# Altium schematic symbol library VGA-Module-SCH-LIB.SchLib: 36 symbols (part 1 of 2)
Pins are listed as number, name and electrical type; pins without a type are passive.

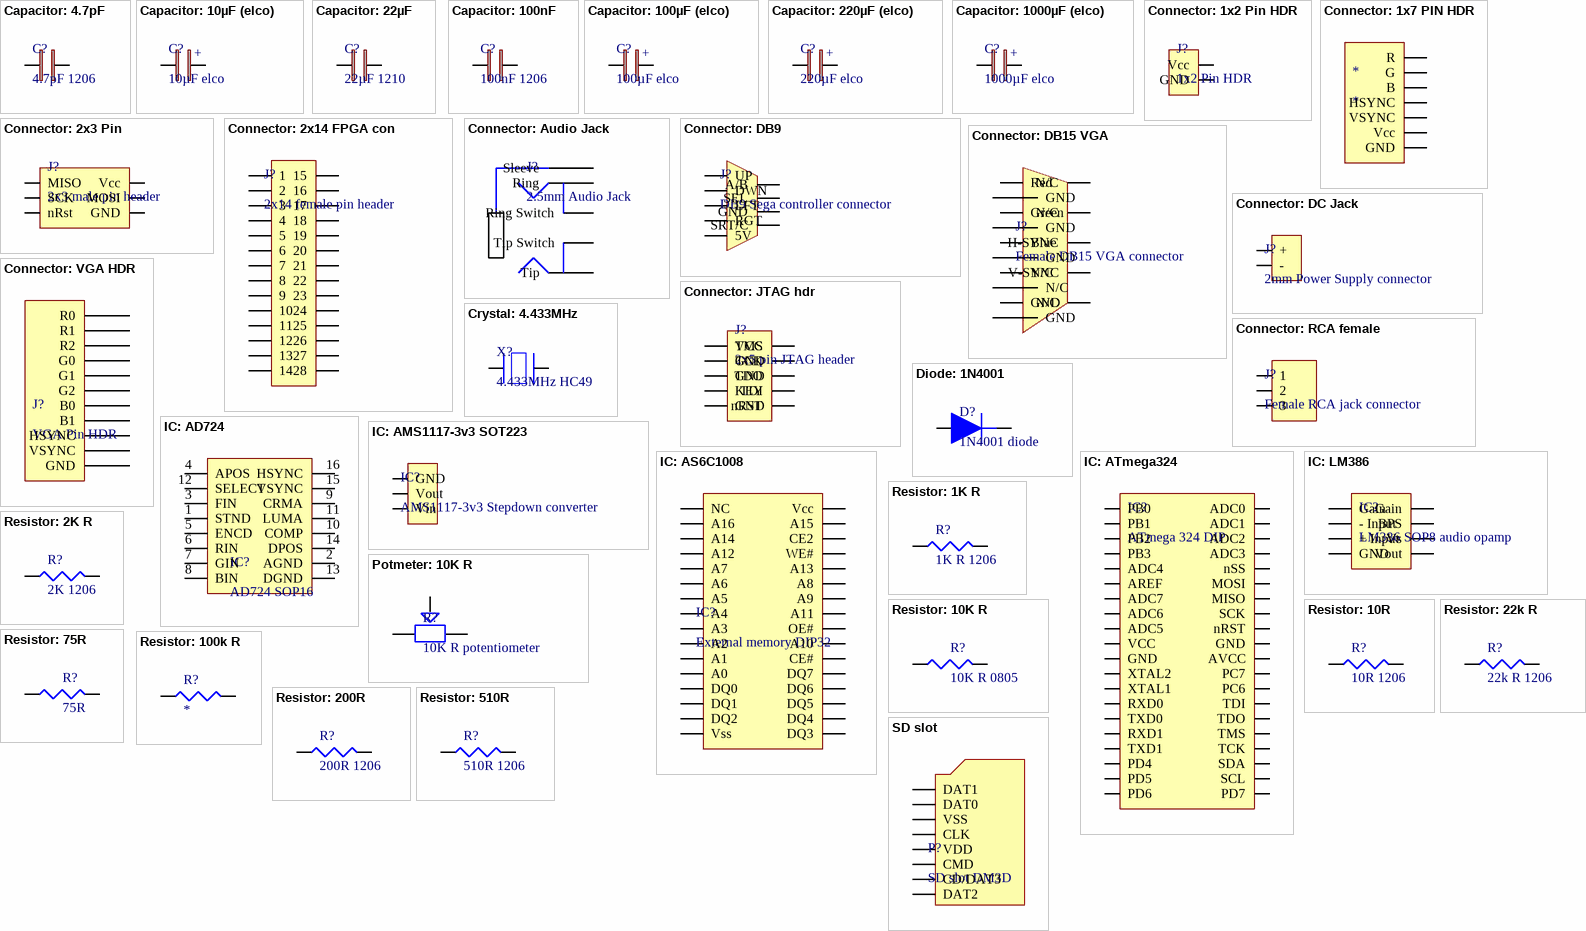
[diagram p0: symbols Capacitor: 4.7pF to SD slot]

## Capacitor: 4.7pF
designator C?, comment 4.7pF 1206
1206 4.7 pF 50 V ±0.25 pF Tolerance C0G/NP0 SMT Multilayer Ceramic Capacitor; Manufacturer: Kyocera AVX; Manufacturer Part Number: 12065A4R7CAT2A; Voltage Rating: 50V; Dielectric: C0G; Dissipation Factor: 2.5%; Supplier 1: Rs; RoHS: Yes; Category: Ceramic Capacitors; Stock 1: 1800; Pricing 1: 100=0,19200, 500=0,13300, 1000=0,11900 (EUR); Mount: Surface Mount; Case/Package: 1206; Case Code (Imperial): 1206; Case Code (Metric): 3216; Min Operating Temperature: -55°C; Max Operating Temperature: 125°C; Capacitance: 4.7pF; Package Quantity: 1; Voltage Rating (DC): 50V; Packaging: Tape and Reel; Series: -; Termination: SMD/SMT; Construction: Flat; Length: 3.2mm; Width: 1.6mm; Height: 0.5mm; Thickness: 0.037inch; Depth: 1.6mm; Radiation Hardening: No; RoHS Compliant: Yes; Lead Free: Lead Free; ComponentLink1URL: https://datasheet.ciiva.com/152/ccog-152054.pdf?src-supplier=Digi-Key; ComponentLink1Description: https://datasheet.ciiva.com/152/ccog-152054.pdf?src-supplier=Digi-Key; ComponentLink2URL: https://datasheet.ciiva.com/152/ccog-152055.pdf?src-supplier=Digi-Key; ComponentLink2Description: https://datasheet.ciiva.com/152/ccog-152055.pdf?src-supplier=Digi-Key; ComponentLink3URL: https://datasheet.ciiva.com/11551/ccog-11551671.pdf?src-supplier=Avnet; ComponentLink3Description: https://datasheet.ciiva.com/11551/ccog-11551671.pdf?src-supplier=Avnet; ComponentLink4URL: https://datasheet.ciiva.com/152/ccog-152056.pdf?src-supplier=Digi-Key; ComponentLink4Description: https://datasheet.ciiva.com/152/ccog-152056.pdf?src-supplier=Digi-Key; ComponentLink5URL: https://datasheet.ciiva.com/16390/ccog-16390684.pdf?src-supplier=Future+Electronics; ComponentLink5Description: https://datasheet.ciiva.com/16390/ccog-16390684.pdf?src-supplier=Future+Electronics; Supplier Part Number 1: 1356810
footprint CAPACITOR 1206 (100nF & 4.7pF)
pins: 1, 2

## Capacitor: 10µF (elco)
designator C?, comment 10µF elco
ALUMINUM ELECTROLYTIC CAPACITOR, 10UF, 35V, 20%, SMD; Product Range:TZV Series; Capacitance:10 F; Voltage Rating:35V; AE Capacitor Case:Radial Can - SMD; Diameter:4mm; ESR:-; Height:6.1mm; Ripple Current AC:90mA; Packaging:Cut Tape ;RoHS Compliant: Yes; Manufacturer: Rubycon; Manufacturer Part Number: 35TZV10M4X6.1; Ripple Current (AC): 90mA; Impedance: 1.45R; Ripple Current: 41mA; Life (Hours): 2000Hour; Supplier 1: Farnell; RoHS: Yes; Category: Aluminum Electrolytic Capacitors; Stock 1: 670; Pricing 1: 5=0,35500, 50=0,23400, 250=0,17300, 500=0,16000, 1000=0,14700, 2000=0,12400, 10000=0,12200, 20000=0,11900 (EUR); Mount: Surface Mount; Case/Package: Radial; Number of Pins: 2; Min Operating Temperature: -55°C; Max Operating Temperature: 105°C; Packaging: Cut Tape; Package Quantity: 1; Capacitance: 10uF; Voltage Rating: 35V; Tolerance: 20%; Voltage Rating (DC): 35V; Series: TZV; Construction: Cylindrical; Diameter: 4mm; Height: 6.1mm; Height - Seated (Max): 0.24inch; Radiation Hardening: No; Reach SVHC Compliant: Yes; Lead Free: Lead Free; RoHS Compliant: Yes; ComponentLink1URL: https://datasheet.ciiva.com/26878/getdatasheetpartid-443596-26878330.pdf?src-supplier=Verical; ComponentLink1Description: https://datasheet.ciiva.com/26878/getdatasheetpartid-443596-26878330.pdf?src-supplier=Verical; ComponentLink2URL: https://datasheet.ciiva.com/22732/1725814-22732219.pdf?src-supplier=Element14; ComponentLink2Description: https://datasheet.ciiva.com/22732/1725814-22732219.pdf?src-supplier=Element14; Supplier Part Number 1: 2346378
footprint ELCO (ELCO CAP)
pins: 1 +, 2 -

## Capacitor: 22µF
designator C?, comment 22µF 1210
1210 22 uF 25 V ±10% Tolerance X5R SMT Multilayer Ceramic Capacitor; Manufacturer: Murata; Manufacturer Part Number: GRM32ER61E226KE15L; Capacitance: 22uF; Voltage Rating: 25V; Supplier 1: Avnet; RoHS: Yes; Category: Ceramic Capacitors; Stock 1: 200000; Pricing 1: 1000=0,80623, 2000=0,76265, 4000=0,71907, 6000=0,67549, 8000=0,63191, 10000=0,58833, 100000=0,54475 (USD); Mount: Surface Mount; Case/Package: 1210; Number of Pins: 2; Case Code (Metric): 3225; Case Code (Imperial): 1210; Material: Ceramic; Min Operating Temperature: -55°C; Max Operating Temperature: 85°C; Package Quantity: 1; Tolerance: 10%; Packaging: Tape and Reel; Voltage Rating (DC): 25V; Dielectric: X5R; Termination: SMD/SMT; Series: GRM; Construction: Flat; Voltage: 25V; Length: 3.2mm; Width: 2.5mm; Height: 2.5mm; Depth: 2.5mm; Thickness: 0.106inch; Radiation Hardening: No; Reach SVHC Compliant: Yes; RoHS Compliant: Yes; Lead Free: Lead Free; Supplier Part Number 1: GRM32ER61E226KE15L
footprint CAPACITOR 1210 (1210 SMD capacitor - 22µF)
pins: 1, 2

## Capacitor: 100nF
designator C?, comment 100nF 1206
Ceramic capacitor SMD-1206 100nF /50V X7R# K +-10%, AVX, RoHS, /4000 reel/; Manufacturer: Kyocera AVX; Manufacturer Part Number: 12065C104KAT2A; Tolerance: 10%; Voltage Rating: 50V; Dielectric: X7R; Insulation Resistance: 100GR; Dissipation Factor: 2.5%; Supplier 1: Farnell; RoHS: Yes; Category: Ceramic Capacitors; Stock 1: 188000; Pricing 1: 4000=0,02600, 20000=0,02520, 40000=0,02440 (EUR); Mount: Surface Mount,PCB; Case/Package: 1206; Number of Pins: 2; Case Code (Metric): 3216; Case Code (Imperial): 1206; Dielectric Material: Ceramic; Contact Plating: Tin,Matte; Min Operating Temperature: -55°C; Max Operating Temperature: 125°C; Packaging: Tape and Reel; Capacitance: 100nF; Voltage Rating (DC): 50V; Voltage: 50V; Series: -; Package Quantity: 1; Termination: SMD/SMT; Construction: Flat; Length: 3.2mm; Width: 1.6mm; Height: 0.94mm; Depth: 1.6mm; Thickness: 0.037inch; Radiation Hardening: No; Lead Free: Lead Free; RoHS Compliant: Yes; Reach SVHC Compliant: Yes; ComponentLink1URL: https://datasheet.ciiva.com/11786/0900766b80ed4be2-11786988.pdf?src-supplier=Rs; ComponentLink1Description: https://datasheet.ciiva.com/11786/0900766b80ed4be2-11786988.pdf?src-supplier=Rs; ComponentLink2URL: https://datasheet.ciiva.com/2988/cx7r-2988135.pdf?src-supplier=Avnet; ComponentLink2Description: https://datasheet.ciiva.com/2988/cx7r-2988135.pdf?src-supplier=Avnet; ComponentLink3URL: https://datasheet.ciiva.com/16375/cx7r-16375719.pdf?src-supplier=Future+Electronics; ComponentLink3Description: https://datasheet.ciiva.com/16375/cx7r-16375719.pdf?src-supplier=Future+Electronics; ComponentLink4URL: https://datasheet.ciiva.com/2988/cx7r-2988136.pdf?src-supplier=Avnet; ComponentLink4Description: https://datasheet.ciiva.com/2988/cx7r-2988136.pdf?src-supplier=Avnet; ComponentLink5URL: https://datasheet.ciiva.com/7833/cx7r-7833405.pdf?src-supplier=Element14; ComponentLink5Description: https://datasheet.ciiva.com/7833/cx7r-7833405.pdf?src-supplier=Element14; ComponentLink6URL: https://datasheet.ciiva.com/25796/cx7r-25796358.pdf?src-supplier=Farnell; ComponentLink6Description: https://datasheet.ciiva.com/25796/cx7r-25796358.pdf?src-supplier=Farnell; ComponentLink7URL: https://datasheet.ciiva.com/7833/cx7r-7833402.pdf?src-supplier=Element14; ComponentLink7Description: https://datasheet.ciiva.com/7833/cx7r-7833402.pdf?src-supplier=Element14; ComponentLink8URL: https://datasheet.ciiva.com/150/cx7r-150390.pdf?src-supplier=Digi-Key; ComponentLink8Description: https://datasheet.ciiva.com/150/cx7r-150390.pdf?src-supplier=Digi-Key; ComponentLink9URL: https://datasheet.ciiva.com/150/cx7r-150389.pdf?src-supplier=Digi-Key; ComponentLink9Description: https://datasheet.ciiva.com/150/cx7r-150389.pdf?src-supplier=Digi-Key; ComponentLink10URL: https://datasheet.ciiva.com/150/cx7r-150391.pdf?src-supplier=Digi-Key; ComponentLink10Description: https://datasheet.ciiva.com/150/cx7r-150391.pdf?src-supplier=Digi-Key; ComponentLink11URL: https://datasheet.ciiva.com/7833/cx7r-7833403.pdf?src-supplier=Element14; ComponentLink11Description: https://datasheet.ciiva.com/7833/cx7r-7833403.pdf?src-supplier=Element14; ComponentLink12URL: https://datasheet.ciiva.com/7833/cx7r-7833404.pdf?src-supplier=Element14; ComponentLink12Description: https://datasheet.ciiva.com/7833/cx7r-7833404.pdf?src-supplier=Element14; ComponentLink13URL: https://datasheet.ciiva.com/5415/cx7r-218113-5415909.pdf?src-supplier=Mouser; ComponentLink13Description: https://datasheet.ciiva.com/5415/cx7r-218113-5415909.pdf?src-supplier=Mouser; ComponentLink14URL: https://datasheet.ciiva.com/14584/70001075-14584956.pdf?src-supplier=Allied+Electronics; ComponentLink14Description: https://datasheet.ciiva.com/14584/70001075-14584956.pdf?src-supplier=Allied+Electronics; Supplier Part Number 1: 2281081
footprint CAPACITOR 1206 (100nF & 4.7pF)
pins: 1, 2

## Capacitor: 100µF (elco)
designator C?, comment 100µF elco
CAP ALUM 100UF 20% 10V SMD; Manufacturer: Panasonic; Manufacturer Part Number: EEE-1AA101WR; Ripple Current: 50mA; Life (Hours): 1000Hour; Supplier 1: Rs; RoHS: Yes; Category: Aluminum Electrolytic Capacitors; Stock 1: 2900; Pricing 1: 50=0,23400, 250=0,13800, 500=0,11000 (EUR); Mount: Surface Mount,PCB; Case/Package: Radial; Contact Plating: Tin; Min Operating Temperature: -40°C; Max Operating Temperature: 85°C; Capacitance: 100uF; Voltage Rating: 10V; Tolerance: 20%; Packaging: Tape and Reel; Package Quantity: 1000; Voltage Rating (DC): 10V; Termination: SMD/SMT; Series: S; Construction: Cylindrical; Ripple Current (AC): 50mA; Diameter: 5mm; Length: 5.5mm; Height: 5.4mm; Height - Seated (Max): 0.213inch; Ratings: AEC-Q200; Radiation Hardening: No; RoHS Compliant: Yes; Lead Free: Lead Free; ComponentLink1URL: https://datasheet.ciiva.com/26945/getdatasheetpartid-169213-26945071.pdf?src-supplier=Verical; ComponentLink1Description: https://datasheet.ciiva.com/26945/getdatasheetpartid-169213-26945071.pdf?src-supplier=Verical; ComponentLink2URL: https://datasheet.ciiva.com/24027/aba0000ce2-40801-24027541.pdf?src-supplier=Mouser; ComponentLink2Description: https://datasheet.ciiva.com/24027/aba0000ce2-40801-24027541.pdf?src-supplier=Mouser; ComponentLink3URL: https://datasheet.ciiva.com/14598/70255710-14598233.pdf?src-supplier=Allied+Electronics; ComponentLink3Description: https://datasheet.ciiva.com/14598/70255710-14598233.pdf?src-supplier=Allied+Electronics; ComponentLink4URL: https://datasheet.ciiva.com/14605/70255710-14605689.pdf?src-supplier=Allied+Electronics; ComponentLink4Description: https://datasheet.ciiva.com/14605/70255710-14605689.pdf?src-supplier=Allied+Electronics; ComponentLink5URL: https://datasheet.ciiva.com/11673/aba0000ce2-11673882.pdf?src-supplier=Avnet; ComponentLink5Description: https://datasheet.ciiva.com/11673/aba0000ce2-11673882.pdf?src-supplier=Avnet; ComponentLink6URL: https://datasheet.ciiva.com/16427/aba0000ce2-16427544.pdf?src-supplier=Future+Electronics; ComponentLink6Description: https://datasheet.ciiva.com/16427/aba0000ce2-16427544.pdf?src-supplier=Future+Electronics; ComponentLink7URL: https://datasheet.ciiva.com/2983/aba0000ce2-2983906.pdf?src-supplier=Avnet; ComponentLink7Description: https://datasheet.ciiva.com/2983/aba0000ce2-2983906.pdf?src-supplier=Avnet; ComponentLink8URL: https://datasheet.ciiva.com/30075/11aba0000ce2-30075303.pdf?src-supplier=Onlinecomponents.com; ComponentLink8Description: https://datasheet.ciiva.com/30075/11aba0000ce2-30075303.pdf?src-supplier=Onlinecomponents.com; Supplier Part Number 1: 1766372
footprint ELCO (ELCO CAP)
pins: 1 +, 2 -

## Capacitor: 220µF (elco)
designator C?, comment 220µF elco
Cap Aluminum Lytic 220uF 50V 20% (8 X 10.2mm) SMD 0.18 Ohm 670mA 2000h 105C Automotive T/R; Manufacturer: Panasonic; Manufacturer Part Number: EEEFT1H221AP; Dielectric Material: Aluminium; ESR (Equivalent Series Resistance): 180mR; Leakage Current: 110uA; Life (Hours): 2000Hour; Lead Diameter: 0.9mm; Supplier 1: Avnet; RoHS: Yes; Category: Aluminum Electrolytic Capacitors; Stock 1: 359; Pricing 1: 1=1,43000, 10=1,11000, 25=1,01000, 50=0,90500, 100=0,80400 (USD); Mount: Surface Mount,PCB; Case/Package: Radial; Number of Pins: 2; Contact Plating: Tin; Min Operating Temperature: -55°C; Max Operating Temperature: 105°C; Capacitance: 220uF; Voltage Rating: 50V; Tolerance: 20%; Packaging: Tape and Reel; Package Quantity: 500; Voltage Rating (DC): 50V; Termination: SMD/SMT; Voltage: 50V; Series: FT; Construction: Cylindrical; Ripple Current: 670mA; Ripple Current (AC): 670mA; Diameter: 8mm; Length: 10.2mm; Height: 10.2mm; Height - Seated (Max): 0.413inch; Lead Pitch: 3.1mm; Ratings: AEC-Q200; Radiation Hardening: No; Reach SVHC Compliant: Yes; Lead Free: Lead Free; RoHS Compliant: Yes; ComponentLink1URL: https://datasheet.ciiva.com/48523/smd-ft-eng-tds-48523263.pdf?src-supplier=Distrelec; ComponentLink1Description: https://datasheet.ciiva.com/48523/smd-ft-eng-tds-48523263.pdf?src-supplier=Distrelec; ComponentLink2URL: https://datasheet.ciiva.com/43458/1790597-43458703.pdf?src-supplier=Farnell; ComponentLink2Description: https://datasheet.ciiva.com/43458/1790597-43458703.pdf?src-supplier=Farnell; ComponentLink3URL: https://datasheet.ciiva.com/6025/1790597-6025836.pdf?src-supplier=Farnell; ComponentLink3Description: https://datasheet.ciiva.com/6025/1790597-6025836.pdf?src-supplier=Farnell; ComponentLink4URL: https://datasheet.ciiva.com/46376/1790597-46376766.pdf?src-supplier=Element14; ComponentLink4Description: https://datasheet.ciiva.com/46376/1790597-46376766.pdf?src-supplier=Element14; ComponentLink5URL: https://datasheet.ciiva.com/28691/1244238-28691159.pdf?src-supplier=Element14; ComponentLink5Description: https://datasheet.ciiva.com/28691/1244238-28691159.pdf?src-supplier=Element14; ComponentLink6URL: https://datasheet.ciiva.com/28691/1244238-28691150.pdf?src-supplier=Element14; ComponentLink6Description: https://datasheet.ciiva.com/28691/1244238-28691150.pdf?src-supplier=Element14; ComponentLink7URL: https://datasheet.ciiva.com/46385/1790597-46385166.pdf?src-supplier=Element14; ComponentLink7Description: https://datasheet.ciiva.com/46385/1790597-46385166.pdf?src-supplier=Element14; ComponentLink8URL: https://datasheet.ciiva.com/24070/aba0000ce135-31031-24070059.pdf?src-supplier=Mouser; ComponentLink8Description: https://datasheet.ciiva.com/24070/aba0000ce135-31031-24070059.pdf?src-supplier=Mouser; ComponentLink9URL: https://datasheet.ciiva.com/14599/70243693-14599500.pdf?src-supplier=Allied+Electronics; ComponentLink9Description: https://datasheet.ciiva.com/14599/70243693-14599500.pdf?src-supplier=Allied+Electronics; ComponentLink10URL: https://datasheet.ciiva.com/14607/70243693-14607598.pdf?src-supplier=Allied+Electronics; ComponentLink10Description: https://datasheet.ciiva.com/14607/70243693-14607598.pdf?src-supplier=Allied+Electronics; ComponentLink11URL: https://datasheet.ciiva.com/14606/70243693-14606280.pdf?src-supplier=Allied+Electronics; ComponentLink11Description: https://datasheet.ciiva.com/14606/70243693-14606280.pdf?src-supplier=Allied+Electronics; Supplier Part Number 1: 31T8183
footprint ELCO (ELCO CAP)
pins: 1 +, 2 -

## Capacitor: 1000µF (elco)
designator C?, comment 1000µF elco
Capacitor; Aluminum Electrolytic; Ecap 1000uF 25V H13 Case FK SMT; Manufacturer: Panasonic; Manufacturer Part Number: EEE-FK1E102AQ; Tolerance: 20%; Capacitance: 1mF; Ripple Current: 1.1A; Life (Hours): 5000Hour; ESR (Equivalent Series Resistance): 60mR; Polarity: Polar; Supplier 1: Rs; RoHS: Yes; Category: Aluminum Electrolytic Capacitors; Stock 1: 5; Pricing 1: 50=1,92800, 100=1,80600, 250=1,68200, 500=1,52800 (EUR); Mount: Surface Mount,PCB; Case/Package: Radial; Min Operating Temperature: -55°C; Max Operating Temperature: 105°C; Packaging: Tape and Reel; Package Quantity: 200; Voltage Rating: 25V; Voltage Rating (DC): 25V; Termination: SMD/SMT; Series: FK; Voltage: 25V; Construction: Cylindrical; Impedance: 60mR; Ripple Current (AC): 1.1A; Diameter: 12.5mm; Length: 13.5mm; Height: 13.5mm; Height - Seated (Max): 0.55inch; Ratings: AEC-Q200; Radiation Hardening: No; Reach SVHC Compliant: Yes; RoHS Compliant: Yes; Lead Free: Lead Free; Supplier Part Number 1: 7083869P
footprint ELCO (ELCO CAP)
pins: 1 +, 2 -

## Connector: 1x2 Pin HDR
designator J?, comment 1x2 Pin HDR
1x2 Pin header
footprint 2 HDR (1x2 pin header)
pins: 1 Vcc, 2 GND

## Connector: 1x7 PIN HDR
designator *
7 pin header
footprint 7 HDR (1x7 pin header)
pins: 1 R, 2 G, 3 B, 4 HSYNC, 5 VSYNC, 6 Vcc, 7 GND

## Connector: 2x3 Pin
designator J?, comment 2x3 male pin header
2x3 Pin header
footprint 2X3 HDR (2x3 pin header)
pins: 1 MISO, 2 Vcc, 3 SCK, 4 MOSI, 5 nRst, 6 GND

## Connector: 2x14 FPGA con
designator J?, comment 2x14 female pin header
12 Position Total Dual Row 2.54 mm Pitch Straight Female Header; Manufacturer: Sullins; Manufacturer Part Number: PPPC062LFBN-RC; Number of Positions: 12; Pitch: 0.1inch; Supplier 1: Future Electronics; RoHS: Yes; Category: Headers and Wire Housings; Stock 1: 3790; Pricing 1: 1=0,57000, 75=0,55000, 250=0,53000, 750=0,51000, 2500=0,47000 (USD); Mount: Through Hole; Contact Plating: Gold; Color: Black; Contact Material: Bronze; Housing Material: Plastic; Number of Rows: 2; Packaging: Bulk; Termination: Solder; Connector Type: Header; Contact Type: Female Socket; Package Quantity: 1000; Length: 15.7mm; Width: 5mm; Height: 8.5mm; Row Spacing: 0.1inch; RoHS Compliant: Yes; Lead Free: Lead Free; ComponentLink1URL: https://media.digikey.com/pdf/Data%20Sheets/Sullins%20PDFs/Female_Headers.100_DS.pdf?src-supplier=Digi-Key; ComponentLink1Description: https://media.digikey.com/pdf/Data%20Sheets/Sullins%20PDFs/Female_Headers.100_DS.pdf?src-supplier=Digi-Key; ComponentLink2URL: http://www.sullinscorp.com/catalogs/101_Page80-81_HEADER_.100_2.54mm_FEMALE.pdf?src-supplier=Future+Electronics; ComponentLink2Description: http://www.sullinscorp.com/catalogs/101_Page80-81_HEADER_.100_2.54mm_FEMALE.pdf?src-supplier=Future+Electronics; Supplier Part Number 1: 5320643
footprint 2X14 HDR (2x14 pin header)
pins: 1, 2, 3, 4, 5, 6, 7, 8, 9, 10, 11, 12, 13, 14, 15, 16, 17, 18, 19, 20, 21, 22, 23, 24, 25, 26, 27, 28

## Connector: Audio Jack
designator J?, comment 2.5mm Audio Jack
Conn Audio RCP 6 POS Solder RA SMD 6 Terminal 1 Port T/R; Manufacturer: Kycon; Manufacturer Part Number: STX-25427-6N-TR; Gender: Female; Voltage Rating: 250V; Number of Contacts: 6; Supplier 1: Mouser; RoHS: Yes; Category: Connectors; Stock 1: 623; Pricing 1: 1=1,84000, 10=1,50000, 50=1,50000, 100=1,43000, 1000=1,19000, 10000=0,90300 (USD); Mount: Surface Mount; Color: Black; Contact Material: Copper Alloy; Contact Plating: Gold; Package Quantity: 1250; Packaging: Tape and Reel; Termination: SMD/SMT; Orientation: Horizontal; Series: STX-25427; Radiation Hardening: No; RoHS Compliant: Yes; ComponentLink1URL: https://datasheet.ciiva.com/5054/stx25427-181552-5054121.pdf?src-supplier=Mouser; ComponentLink1Description: https://datasheet.ciiva.com/5054/stx25427-181552-5054121.pdf?src-supplier=Mouser; Supplier Part Number 1: 806-STX-25427-6N-TR
footprint AUDIO JACK (3.5mm audio jack)
pins: 1 Sleeve, 2 Ring, 3 Ring Switch, 4 Tip Switch, 6 Tip

## Connector: DB9
designator J?, comment DB9 Sega controller connector
9 Way Right Angle Through Hole PCB D-sub Connector Socket; 2.77mm; 2.84mm Pitch; Manufacturer: Wurth Electronics; Manufacturer Part Number: 618009231321; Gender: Female; Current Rating: 3A; Number of Contacts: 9; Voltage Rating: 125V; Supplier 1: Farnell; RoHS: Yes; Category: D-Sub Connectors; Stock 1: 287; Pricing 1: 1=3,44000, 10=2,90000, 100=2,52000, 250=2,17000, 500=1,93000, 1000=1,89000 (EUR); Mount: Through Hole; Contact Material: Copper Alloy; Contact Plating: Gold; Housing Material: Steel; Min Operating Temperature: -40°C; Max Operating Temperature: 85°C; Series: 618; Number of Rows: 2; Termination: SMD/SMT; Orientation: Right Angle; Length: 30.8mm; Width: 12.5mm; Depth: 20.75mm; Pitch: 2.84mm; RoHS Compliant: Yes; Lead Free: Lead Free; ComponentLink1URL: https://datasheet.ciiva.com/25605/0900766b81191772-25605489.pdf?src-supplier=Rs; ComponentLink1Description: https://datasheet.ciiva.com/25605/0900766b81191772-25605489.pdf?src-supplier=Rs; ComponentLink2URL: https://datasheet.ciiva.com/12669/6180xx231321-12669192.pdf?src-supplier=Mouser; ComponentLink2Description: https://datasheet.ciiva.com/12669/6180xx231321-12669192.pdf?src-supplier=Mouser; Supplier Part Number 1: 1841197
footprint DB9 Connector (DB9 Sega joystick connector)
pins: 1 UP, 2 DWN, 3 LFT, 4 RGT, 5 5V, 6 A/B, 7 SEL, 8 GND, 9 SRT/C

## Connector: DB15 VGA
designator J?, comment Female DB15 VGA connector
footprint VGA CONNECTOR
pins: 1 Red, 2 Green, 3 Blue, 4 N/C, 5 GND, 6 GND, 7 GND, 8 GND, 9 N/C, 10 GND, 11 N/C, 12 N/C, 13 H-SYNC, 14 V-SYNC, 15 N/C

## Connector: DC Jack
designator J?, comment 2mm Power Supply connector
2.0 x 6.5 mm, 2.5 A, Horizontal, Through Hole, Dc Power Jack Connector; Manufacturer: CUI; Manufacturer Part Number: PJ-002A; Gender: Male; Shielding: Unshielded; Current Rating: 2.5A; Insulation Resistance: 50MR; Voltage Rating: 24V; Number of Conductors: 2; Supplier 1: Arrow Electronics; RoHS: Yes; Category: Uncategorized; Mount: Through Hole; Color: Black; Contact Material: Copper Alloy,Copper; Contact Plating: Tin,Nickel; Housing Material: Thermoplastic; Housing Color: Black; Min Operating Temperature: -25°C; Max Operating Temperature: 85°C; Package Quantity: 500; Termination: Through Hole; Connector Type: Jack; Contact Gender: Male; Packaging: Bulk; Series: -; Orientation: Horizontal; Diameter: 2.1mm; RoHS Compliant: Yes; Flammability Rating: UL94 V-0; Lead Free: Lead Free; ComponentLink1URL: http://www.mouser.com/ds/2/670/pj-002a-515880.pdf?src-supplier=Mouser; ComponentLink1Description: http://www.mouser.com/ds/2/670/pj-002a-515880.pdf?src-supplier=Mouser; ComponentLink2URL: http://www.cui.com/Product/Resource/FuturePDF/PJ-002A.pdf?src-supplier=Future+Electronics; ComponentLink2Description: http://www.cui.com/Product/Resource/FuturePDF/PJ-002A.pdf?src-supplier=Future+Electronics; ComponentLink3URL: https://www.cui.com/product/resource/digikeypdf/pj-002a.pdf?src-supplier=Digi-Key; ComponentLink3Description: https://www.cui.com/product/resource/digikeypdf/pj-002a.pdf?src-supplier=Digi-Key; Supplier Part Number 1: PJ-002A
footprint DC JACK (DC power jack connector)
pins: 1 +, 2 -

## Connector: JTAG hdr
designator J?, comment 2x5 pin JTAG header
Male Box Header WR-BHD, THT, Vertical, pitch 2.54 mm, 10 pins; Manufacturer: Wurth Electronics; Manufacturer Part Number: 61201021621; Number of Positions: 10; Voltage Rating: 250V; Current Rating: 3A; Insulation Resistance: 1GR; Pitch: 2.54mm; Row Spacing: 0.1inch; Supplier 1: Farnell; RoHS: Yes; Category: Headers and Wire Housings; Stock 1: 6832; Pricing 1: 10=0,44900, 100=0,37100, 250=0,35000, 500=0,32800, 1000=0,32000, 2500=0,31400 (EUR); Mount: Through Hole; Color: Black; Contact Plating: Gold; Contact Material: Copper Alloy,Copper; Contact Shape: Square; Contact Finish - Mating: GOLD; Insulation Material: PBT; Insulation Color: Black; Housing Material: PBT; Min Operating Temperature: -40°C; Max Operating Temperature: 125°C; Number of Rows: 2; Packaging: Tray; Termination: Solder; Connector Type: Header; Fastening Type: Pull; Number of Contacts: 10; Gender: Male; Series: WR-BHD; Contact Type: Male Pin; Package Quantity: 260; Contact Gender: Male; Orientation: Straight; Length: 9.1mm; Width: 20.36mm; Height: 8.85mm; Flammability Rating: UL94 V-0; RoHS Compliant: Yes; Lead Free: Lead Free; ComponentLink1URL: https://datasheet.ciiva.com/15395/6120xx21621-265834-15395106.pdf?src-supplier=Mouser; ComponentLink1Description: https://datasheet.ciiva.com/15395/6120xx21621-265834-15395106.pdf?src-supplier=Mouser; ComponentLink2URL: https://datasheet.ciiva.com/731/6120xx21621-731344.pdf?src-supplier=Digi-Key; ComponentLink2Description: https://datasheet.ciiva.com/731/6120xx21621-731344.pdf?src-supplier=Digi-Key; ComponentLink3URL: https://datasheet.ciiva.com/7648/76595-7648121.pdf?src-supplier=Element14; ComponentLink3Description: https://datasheet.ciiva.com/7648/76595-7648121.pdf?src-supplier=Element14; Supplier Part Number 1: 1642019
footprint JTAG connector
pins: 1 VCC, 2 TMS, 3 GND, 4 TCK, 5 GND, 6 TDO, 7 KEY, 8 TDI, 9 GND, 10 nRST

## Connector: RCA female
designator J?, comment Female RCA jack connector
Conn RCA RCP 4 POS Solder RA SMD 2 Terminal 1 Port T/R; Manufacturer: CUI; Manufacturer Part Number: RCJ-014-SMT-TR; Body Material: Steel; Body Color: Silver; Shielding: Unshielded; Supplier 1: Arrow Electronics; RoHS: No; Category: Uncategorized; Mount: Surface Mount; Case/Package: Metal; Contact Plating: Tin; Insulation Color: Yellow; Gender: Female; Series: RCJ; Packaging: Tape and Reel; Termination: Solder; RoHS Compliant: No; ComponentLink1URL: https://datasheet.ciiva.com/7368/rcj-01x-smt-7368731.pdf?src-supplier=Digi-Key; ComponentLink1Description: https://datasheet.ciiva.com/7368/rcj-01x-smt-7368731.pdf?src-supplier=Digi-Key; ComponentLink2URL: https://datasheet.ciiva.com/7368/rcj-01x-smt-7368734.pdf?src-supplier=Digi-Key; ComponentLink2Description: https://datasheet.ciiva.com/7368/rcj-01x-smt-7368734.pdf?src-supplier=Digi-Key; Supplier Part Number 1: RCJ-014-SMT-TR
footprint RCA JACK (RCA Jack)
pins: 1, 2, 3

## Connector: VGA HDR
designator J?, comment VGA Pin HDR
VGA pin male header
footprint VGA HDR (1x11 pin header)
pins: 1 R0, 2 R1, 3 R2, 4 G0, 5 G1, 6 G2, 7 B0, 8 B1, 9 HSYNC, 10 VSYNC, 11 GND

## Crystal: 4.433MHz
designator X?, comment 4.433MHz HC49
Crystal 10MHz 30pF 2-Pin HC-49/U Loose; Manufacturer: Multicomp; Manufacturer Part Number: HC49S-10-30-50-70-30-ATF; Frequency Tolerance: 30ppm; Frequency Stability: 50ppm; Supplier 1: Farnell; RoHS: Yes; Category: Crystals; Stock 1: 320; Pricing 1: 1=0,39200, 2=0,35100, 3=0,31800, 5=0,31100, 10=0,30300, 20=0,27800, 50=0,25900, 100=0,23300 (EUR); Mount: Through Hole; Number of Pins: 2; Min Operating Temperature: -20°C; Max Operating Temperature: 70°C; Frequency: 10MHz; Load Capacitance: 30pF; Reach SVHC Compliant: Yes; RoHS Compliant: Yes; ComponentLink1URL: http://www.farnell.com/datasheets/1661828.pdf?src-supplier=Farnell; ComponentLink1Description: http://www.farnell.com/datasheets/1661828.pdf?src-supplier=Farnell; ComponentLink2URL: http://www.farnell.com/datasheets/1661828.pdf?src-supplier=Element14; ComponentLink2Description: http://www.farnell.com/datasheets/1661828.pdf?src-supplier=Element14; Supplier Part Number 1: 1666999
footprint XTAL 4.4436 MHz
pins: 1, 2

## Diode: 1N4001
designator D?, comment 1N4001 diode
Rectifier Diode Switching 100V 1A 2000ns 2-Pin SMA T/R; Manufacturer: MCC; Manufacturer Part Number: GS1B-LTP; Forward Voltage: 1V; Max Reverse Current: 50uA; Peak Non-Repetitive Surge Current: 30A; Element Configuration: Single; Reverse Recovery Time: 2us; Supplier 1: Arrow Electronics; RoHS: Yes; Category: Rectifier Diodes; Stock 1: 4511; Pricing 1: 1=0,24370, 10=0,20390, 25=0,20230, 100=0,11440, 250=0,11330, 500=0,07600, 1000=0,05260, 3000=0,03660 (USD); Mount: Surface Mount; Case/Package: DO-214AC; Number of Pins: 2; Min Operating Temperature: -55°C; Max Operating Temperature: 150°C; Packaging: Tape and Reel; Package Quantity: 1; Average Rectified Current: 1A; Max Reverse Voltage (DC): 100V; Series: GS1B; Max Surge Current: 30A; Reverse Voltage: 100V; Lead Free: Lead Free; RoHS Compliant: Yes; ComponentLink1URL: https://datasheet.ciiva.com/911/gs1a-lgs1m-ldo-214ac-911885.pdf?src-supplier=Digi-Key; ComponentLink1Description: https://datasheet.ciiva.com/911/gs1a-lgs1m-ldo-214ac-911885.pdf?src-supplier=Digi-Key; ComponentLink2URL: https://datasheet.ciiva.com/911/gs1a-lgs1m-ldo-214ac-911886.pdf?src-supplier=Digi-Key; ComponentLink2Description: https://datasheet.ciiva.com/911/gs1a-lgs1m-ldo-214ac-911886.pdf?src-supplier=Digi-Key; ComponentLink3URL: https://datasheet.ciiva.com/911/gs1a-lgs1m-ldo-214ac-911887.pdf?src-supplier=Digi-Key; ComponentLink3Description: https://datasheet.ciiva.com/911/gs1a-lgs1m-ldo-214ac-911887.pdf?src-supplier=Digi-Key; Supplier Part Number 1: GS1B-LTP
footprint DIODE (SMD DIODE)
pins: 1, 2

## IC: AD724
designator IC?, comment AD724 SOP16
RGB to NTSC and PAL Encoder 16-Pin SOIC W Tube; Manufacturer: Analog Devices; Manufacturer Part Number: AD724JRZ; Min Supply Voltage: 4.75V; Max Supply Voltage: 5.25V; Number of Channels: 3; Max Power Dissipation: 800mW; Operating Supply Voltage: 5V; Nominal Supply Current: 33mA; Bandwidth: 5MHz; Operating Supply Current: 42mA; Supplier 1: Farnell; RoHS: Yes; Category: Decoders and Multiplexers; Stock 1: 46; Pricing 1: 1=20,54000, 10=18,88000, 47=18,10000, 141=15,95000, 282=15,17000, 517=14,19000 (EUR); Mount: Surface Mount; Case/Package: SOIC; Number of Pins: 16; Contact Plating: Tin,Matte; Min Operating Temperature: 0°C; Max Operating Temperature: 70°C; Package Quantity: 47; Packaging: Rail/Tube; Series: -; Supply Current: 33mA; Length: 10.5mm; Width: 7.6mm; Height: 2.35mm; Lead Free: Contains Lead; RoHS Compliant: Yes; Reach SVHC Compliant: Yes; ComponentLink1URL: https://datasheet.ciiva.com/1778/ad724-1778742.pdf?src-supplier=Digi-Key; ComponentLink1Description: https://datasheet.ciiva.com/1778/ad724-1778742.pdf?src-supplier=Digi-Key; ComponentLink2URL: https://datasheet.ciiva.com/1140/83869-1140251.pdf?src-supplier=Element14; ComponentLink2Description: https://datasheet.ciiva.com/1140/83869-1140251.pdf?src-supplier=Element14; ComponentLink3URL: https://datasheet.ciiva.com/3245/ad724-3245391.pdf?src-supplier=Avnet; ComponentLink3Description: https://datasheet.ciiva.com/3245/ad724-3245391.pdf?src-supplier=Avnet; Supplier Part Number 1: 4023716
footprint AD724 (AD724 SOP16)
pins: 1 STND, 2 AGND, 3 FIN, 4 APOS, 5 ENCD, 6 RIN, 7 GIN, 8 BIN, 9 CRMA, 10 COMP, 11 LUMA, 12 SELECT, 13 DGND, 14 DPOS, 15 VSYNC, 16 HSYNC

## IC: AMS1117-3v3 SOT223
designator IC?, comment AMS1117-3v3 Stepdown converter
AMS1117-3v3 Stepdown converter 5v to 3v3 SOT223 package
footprint AMS1117 SO223 (AMS1117 SO223 package)
pins: 1 GND, 2 Vout, 3 Vin

## IC: AS6C1008
designator IC?, comment External memory DIP32
AS6C1008 Series 1-Mbit (128 K x 8) 3 V 55 ns CMOS Static RAM - PDIP-32; Manufacturer: Alliance Memory; Manufacturer Part Number: AS6C1008-55PCN; Access Time: 55ns; Max Supply Voltage: 5.5V; Min Supply Voltage: 2.7V; Interface: Parallel; Memory Size: 1Mb; Memory Type: RAM,SRAM - Asynchronous,SDR; Operating Supply Voltage: 3V; Address Bus Width: 17b; Number of Ports: 1; Number of Words: 128000; Max Supply Current: 60mA; Supplier 1: Rs; RoHS: Yes; Category: RAM; Stock 1: 774; Pricing 1: 1=4,11000, 5=3,49000, 10=3,39000, 25=3,28000, 50=3,20000 (EUR); Mount: Through Hole; Case/Package: PDIP; Number of Pins: 32; Weight: 0.078125oz; Min Operating Temperature: 0°C; Max Operating Temperature: 70°C; Packaging: Rail/Tube; Package Quantity: 13; Series: AS6C1008; Density: 1Mb; Access Time-Max: 55ns; Supply Voltage-Nom: 3V; Length: 41.91mm; Width: 13.818mm; Height: 3.81mm; Radiation Hardening: No; RoHS Compliant: Yes; Lead Free: Lead Free; Temperature Grade: COMMERCIAL; Reach SVHC Compliant: Yes; ComponentLink1URL: https://datasheet.ciiva.com/19457/1927457-19457052.pdf?src-supplier=Jameco; ComponentLink1Description: https://datasheet.ciiva.com/19457/1927457-19457052.pdf?src-supplier=Jameco; ComponentLink2URL: https://datasheet.ciiva.com/6877/32783-6877594.pdf?src-supplier=Newark; ComponentLink2Description: https://datasheet.ciiva.com/6877/32783-6877594.pdf?src-supplier=Newark; ComponentLink3URL: https://datasheet.ciiva.com/18617/as6c1008feb2007-18617960.pdf?src-supplier=Digi-Key; ComponentLink3Description: https://datasheet.ciiva.com/18617/as6c1008feb2007-18617960.pdf?src-supplier=Digi-Key; ComponentLink4URL: https://datasheet.ciiva.com/1510/32783-1510620.pdf?src-supplier=Element14; ComponentLink4Description: https://datasheet.ciiva.com/1510/32783-1510620.pdf?src-supplier=Element14; ComponentLink5URL: https://datasheet.ciiva.com/3201/as6c1008feb2007-3201030.pdf?src-supplier=Avnet; ComponentLink5Description: https://datasheet.ciiva.com/3201/as6c1008feb2007-3201030.pdf?src-supplier=Avnet; ComponentLink6URL: https://datasheet.ciiva.com/16208/as6c1008feb2007-16208749.pdf?src-supplier=Future+Electronics; ComponentLink6Description: https://datasheet.ciiva.com/16208/as6c1008feb2007-16208749.pdf?src-supplier=Future+Electronics; Supplier Part Number 1: 7444542
footprint DIP32 HDR
pins: 1 NC, 2 A16, 3 A14, 4 A12, 5 A7, 6 A6, 7 A5, 8 A4, 9 A3, 10 A2, 11 A1, 12 A0, 13 DQ0, 14 DQ1, 15 DQ2, 16 Vss, 17 DQ3, 18 DQ4, 19 DQ5, 20 DQ6, 21 DQ7, 22 CE#, 23 A10, 24 OE#, 25 A11, 26 A9, 27 A8, 28 A13, 29 WE#, 30 CE2, 31 A15, 32 Vcc

## IC: ATmega324
designator IC?, comment ATmega 324 DIP
8-bit AVR MCU, 32 KB, 2048 Bytes, 20 MHz, 1.8 to 5.5V, PDIP-40, RoHS; Manufacturer: Microchip; Manufacturer Part Number: ATMEGA324PA-PU; Min Supply Voltage: 1.8V; Interface: I2C,SPI,UART,USART,2-Wire; Frequency: 20MHz; RAM Size: 2KB; Number of I/Os: 32; Number of Timers/Counters: 3; Oscillator Type: Internal; Data Bus Width: 8b; Watchdog Timer: Yes; Memory Type: FLASH; Memory Size: 32KB; Peripherals: Brown-out Detect/Reset,POR,PWM,WDT; Number of PWM Channels: 6; Number of ADC Channels: 8; Number of SPI Channels: 1; Supplier 1: Farnell; RoHS: Yes; Category: Uncategorized; Stock 1: 132; Pricing 1: 1=5,70000, 25=5,22000, 100=5,13000 (EUR); Mount: Through Hole; Case/Package: PDIP; Number of Pins: 40; Contact Plating: Tin,Matte; Min Operating Temperature: -40°C; Max Operating Temperature: 85°C; Max Supply Voltage: 5.5V; Package Quantity: 10; Packaging: Rail/Tube; Number of Programmable I/O: 32; Max Frequency: 20MHz; Core Architecture: AVR; Series: AVR® ATmega; Number of I2C Channels: 1; Length: 52.58mm; Width: 13.97mm; Height: 4.445mm; RoHS Compliant: Yes; Reach SVHC Compliant: Yes; ComponentLink1URL: https://datasheet.ciiva.com/1157/atmel-8272-8-bit-avr-microcontroller-atmega164a-pa-324a-pa-644a-pa-1284-p-summary-1157584.pdf?src-supplier=Element14; ComponentLink1Description: https://datasheet.ciiva.com/1157/atmel-8272-8-bit-avr-microcontroller-atmega164a-pa-324a-pa-644a-pa-1284-p-summary-1157584.pdf?src-supplier=Element14; ComponentLink2URL: https://datasheet.ciiva.com/9234/doc8272-9234746.pdf?src-supplier=Avnet; ComponentLink2Description: https://datasheet.ciiva.com/9234/doc8272-9234746.pdf?src-supplier=Avnet; Supplier Part Number 1: 1715485
footprint DIP40 HDR (ATMega DIP40 socket)
pins: 1 PB0, 2 PB1, 3 PB2, 4 PB3, 5 nSS, 6 MOSI, 7 MISO, 8 SCK, 9 nRST, 10 VCC, 11 GND, 12 XTAL2, 13 XTAL1, 14 RXD0, 15 TXD0, 16 RXD1, 17 TXD1, 18 PD4, 19 PD5, 20 PD6, 21 PD7, 22 SCL, 23 SDA, 24 TCK, 25 TMS, 26 TDO, 27 TDI, 28 PC6, 29 PC7, 30 AVCC, 31 GND, 32 AREF, 33 ADC7, 34 ADC6, 35 ADC5, 36 ADC4, 37 ADC3, 38 ADC2, 39 ADC1, 40 ADC0

## IC: LM386
designator IC?, comment LM386 SOP8 audio opamp
Audio Amplifier, 0.325W, 1 Chann; Manufacturer: TI National Semiconductor; Manufacturer Part Number: LM386M-1; Number of Channels: 1; Output Power: 250mW; Max Supply Voltage: 12V; Min Supply Voltage: 4V; Max Power Dissipation: 730mW; Nominal Supply Current: 4mA; Voltage Gain: 46dB; Max Output Power: 325mW; Power Supply Rejection Ratio (PSRR): 50dB; Input Bias Current: 250nA; Supply Type: Single; Bandwidth: 300kHz; Load Impedance: 8R; Quiescent Current: 8mA; Input Offset Voltage (Vos): 2.5mV; Amplifier Type: POWER; Supplier 1: Farnell; RoHS: No; Category: Amplifiers - Audio; Pricing 1: 1=0,75500, 50=0,66000, 100=0,50700, 250=0,47800, 500=0,44800, 1000=0,35400, 2500=0,34700, 5000=0,34000 (EUR); Case/Package: D; Number of Pins: 8; Weight: 0.006lb; Min Operating Temperature: 0°C; Max Operating Temperature: 70°C; Packaging: Rail/Tube; Package Quantity: 95; Power Dissipation: 730mW; Series: -; Number of Amplifiers: 1; Unity Gain Bandwidth Product: 300kHz; Termination: SMD/SMT; Length: 4.9mm; Width: 3.9mm; Height: 1.45mm; Reach SVHC Compliant: Yes; Lead Free: Contains Lead; RoHS Compliant: No; ComponentLink1URL: https://datasheet.ciiva.com/14667/0900766b800333d0-14667266.pdf?src-supplier=Rs; ComponentLink1Description: https://datasheet.ciiva.com/14667/0900766b800333d0-14667266.pdf?src-supplier=Rs; ComponentLink2URL: https://datasheet.ciiva.com/1480/1640767-1480992.pdf?src-supplier=Element14; ComponentLink2Description: https://datasheet.ciiva.com/1480/1640767-1480992.pdf?src-supplier=Element14; ComponentLink3URL: https://datasheet.ciiva.com/1482/1640767-1482305.pdf?src-supplier=Element14; ComponentLink3Description: https://datasheet.ciiva.com/1482/1640767-1482305.pdf?src-supplier=Element14; ComponentLink4URL: https://datasheet.ciiva.com/2967/lm386-2967890.pdf?src-supplier=Avnet; ComponentLink4Description: https://datasheet.ciiva.com/2967/lm386-2967890.pdf?src-supplier=Avnet; Supplier Part Number 1: 9488324
footprint LM386 SOP8 (LM368 SOP8 package)
pins: 1 Gain, 2 - Input, 3 + Input, 4 GND, 5 Vout, 6 Vs, 7 BPS, 8 Gain

## Potmeter: 10K R
designator R?, comment 10K R potentiometer
10K R Potmeter
footprint Potmeter HDR (Potentiometer header)
pins: 1, 2, 3

## Resistor: 1K R
designator R?, comment 1K R 1206
Res Thick Film 1206 1K Ohm 5% 1/4W ±100ppm/°C Molded SMD SMD Paper T/R; Manufacturer: Yageo; Manufacturer Part Number: RC1206JR-131KL; Resistance: 1kR; Power Rating: 250mW; Voltage Rating: 200V; Supplier 1: Mouser; RoHS: Yes; Category: Chip SMD Resistors; Stock 1: 38950; Pricing 1: 1=0,20000, 10=0,06700, 50=0,06700, 100=0,02800, 1000=0,01300, 10000=0,00800 (USD); Case/Package: 1206; Case Code (Imperial): 1206; Case Code (Metric): 3216; Size Code: 1206; Contact Plating: Tin,Matte; Min Operating Temperature: -55°C; Max Operating Temperature: 155°C; Tolerance: 5%; Packaging: Tape and Reel; Temperature Coefficient: 100ppm/°C; Series: RC; Resistor Type: Thick Film; Termination: SMD/SMT; Construction: Rectangular; Length: 3.1mm; Depth: 1.6mm; Radiation Hardening: No; RoHS Compliant: Yes; Lead Free: Lead Free; Military Standard: Not; ComponentLink1URL: http://www.mouser.com/ds/2/447/PYu-RC1206_51_RoHS_L-4-349080.pdf?src-supplier=Mouser; ComponentLink1Description: http://www.mouser.com/ds/2/447/PYu-RC1206_51_RoHS_L-4-349080.pdf?src-supplier=Mouser; ComponentLink2URL: http://www.yageo.com/documents/recent/PYu-RC1206_51_RoHS_L-4.pdf?src-supplier=Future+Electronics; ComponentLink2Description: http://www.yageo.com/documents/recent/PYu-RC1206_51_RoHS_L-4.pdf?src-supplier=Future+Electronics; ComponentLink3URL: http://www.yageo.com/documents/recent/PYu-RC1206_51_RoHS_L_v5.pdf?src-supplier=Avnet; ComponentLink3Description: http://www.yageo.com/documents/recent/PYu-RC1206_51_RoHS_L_v5.pdf?src-supplier=Avnet; Supplier Part Number 1: 603-RC1206JR-131KL
footprint Resistor 1206
pins: 1, 2

## Resistor: 2K R
designator R?, comment 2K 1206
Res Thick Film 1206 2K Ohm 1% 1/4W ±100ppm/°C Molded SMD SMD Paper T/R; Manufacturer: Yageo; Manufacturer Part Number: RC1206FR-132KL; Resistance: 2kR; Voltage Rating: 200V; Power Rating: 250mW; Supplier 1: Digi-Key; RoHS: Yes; Category: Chip SMD Resistors; Pricing 1: 20000=0,00667 (USD); Case/Package: 1206; Case Code (Imperial): 1206; Case Code (Metric): 3216; Contact Plating: Tin,Matte; Size Code: 1206; Min Operating Temperature: -55°C; Max Operating Temperature: 155°C; Tolerance: 1%; Packaging: Tape and Reel; Resistor Type: Thick Film; Temperature Coefficient: 100ppm/°C; Termination: SMD/SMT; Series: RC; Package Quantity: 5000; Length: 3.1mm; Width: 1.6mm; Height: 0.55mm; Radiation Hardening: No; Lead Free: Lead Free; RoHS Compliant: Yes; ComponentLink1URL: https://datasheet.ciiva.com/16834/pyu-rc1206-51-rohs-l-4-16834793.pdf?src-supplier=Future+Electronics; ComponentLink1Description: https://datasheet.ciiva.com/16834/pyu-rc1206-51-rohs-l-4-16834793.pdf?src-supplier=Future+Electronics; Supplier Part Number 1: 13-RC1206FR-132KL-ND
footprint Resistor 1206
pins: 1, 2

## Resistor: 10K R
designator R?, comment 10K R 0805
Res Thick Film 0805 10K Ohm 5% 1/8W ±200ppm/°C Molded SMD SMD Paper T/R; Manufacturer: Vishay Dale; Manufacturer Part Number: CRCW080510K0JNEB; Resistance: 10kR; Power Rating: 125mW; Voltage Rating: 150V; Supplier 1: Avnet; RoHS: Yes; Category: Chip SMD Resistors; Stock 1: 90000; Pricing 1: 10000=0,02220, 20000=0,02100, 40000=0,01980, 60000=0,01860, 80000=0,01740, 100000=0,01620, 1000000=0,01500 (USD); Case/Package: 0805; Case Code (Imperial): 0805; Case Code (Metric): 2012; Contact Plating: Tin; Weight: 0.000194oz; Min Operating Temperature: -55°C; Max Operating Temperature: 155°C; Packaging: Tape and Reel; Tolerance: 5%; Resistor Type: Thick Film; Temperature Coefficient: 200ppm/°C; Series: CRCW; Max Power Dissipation: 125mW; Number of Terminations: 2; Termination: SMD/SMT; Package Quantity: 10000; Voltage Rating (DC): 150V; Features: Automotive AEC-Q200; Resistance Tolerance: 5%; Construction: Rectangular; Technology: THICK FILM; Working Voltage: 150V; Length: 0.079inch; Width: 1.25mm; Height: 0.02inch; Depth: 1.25mm; Radiation Hardening: No; RoHS Compliant: Yes; Lead Free: Lead Free; Military Standard: Not; ComponentLink1URL: https://datasheet.ciiva.com/16199/dcrcwe3-16199191.pdf?src-supplier=Future+Electronics; ComponentLink1Description: https://datasheet.ciiva.com/16199/dcrcwe3-16199191.pdf?src-supplier=Future+Electronics; ComponentLink2URL: https://datasheet.ciiva.com/7725/dcrcwe3-7725772.pdf?src-supplier=Element14; ComponentLink2Description: https://datasheet.ciiva.com/7725/dcrcwe3-7725772.pdf?src-supplier=Element14; ComponentLink3URL: https://datasheet.ciiva.com/3258/dcrcwe3-3258030.pdf?src-supplier=Avnet; ComponentLink3Description: https://datasheet.ciiva.com/3258/dcrcwe3-3258030.pdf?src-supplier=Avnet; Supplier Part Number 1: CRCW080510K0JNEB
footprint RESISTOR 0805
pins: 1, 2

## Resistor: 10R
designator R?, comment 10R 1206
Res Thick Film 1206 10 Ohm 1% 0.25W(1/4W) +/-100ppm/C Molded SMD Automotive Punched T/R; Manufacturer: Panasonic; Manufacturer Part Number: ERJ8ENF10R0V; Temperature Coefficient: 100ppm/°C; Power Rating: 250mW; Voltage Rating: 200V; Supplier 1: Farnell; RoHS: Yes; Category: Chip SMD Resistors; Stock 1: 720000; Pricing 1: 5000=0,02160, 25000=0,02120, 50000=0,02070 (EUR); Mount: Surface Mount; Case/Package: 1206; Number of Pins: 2; Case Code (Metric): 3216; Case Code (Imperial): 1206; Contact Plating: Tin; Size Code: 1206; Min Operating Temperature: -55°C; Max Operating Temperature: 155°C; Resistance: 10R; Tolerance: 1%; Packaging: Tape and Reel; Resistor Type: Thick Film; Series: ERJ; Number of Terminations: 2; Max Power Dissipation: 250mW; Package Quantity: 5000; Termination: SMD/SMT; Voltage Rating (DC): 200V; Features: Automotive AEC-Q200; Construction: Rectangular; Resistance Tolerance: 1%; Length: 3.2mm; Width: 1.6mm; Height: 0.6mm; Depth: 1.6mm; Radiation Hardening: No; RoHS Compliant: Yes; Lead Free: Lead Free; Military Standard: Not; Reach SVHC Compliant: Yes; ComponentLink1URL: https://datasheet.ciiva.com/6082/426256-6082197.pdf?src-supplier=Farnell; ComponentLink1Description: https://datasheet.ciiva.com/6082/426256-6082197.pdf?src-supplier=Farnell; ComponentLink2URL: https://datasheet.ciiva.com/7802/426256-7802460.pdf?src-supplier=Element14; ComponentLink2Description: https://datasheet.ciiva.com/7802/426256-7802460.pdf?src-supplier=Element14; ComponentLink3URL: https://datasheet.ciiva.com/46372/1678782-46372959.pdf?src-supplier=Element14; ComponentLink3Description: https://datasheet.ciiva.com/46372/1678782-46372959.pdf?src-supplier=Element14; ComponentLink4URL: https://datasheet.ciiva.com/24069/aoa0000ce2-24069071.pdf?src-supplier=Mouser; ComponentLink4Description: https://datasheet.ciiva.com/24069/aoa0000ce2-24069071.pdf?src-supplier=Mouser; ComponentLink5URL: https://datasheet.ciiva.com/16758/70260748-16758703.pdf?src-supplier=Allied+Electronics; ComponentLink5Description: https://datasheet.ciiva.com/16758/70260748-16758703.pdf?src-supplier=Allied+Electronics; ComponentLink6URL: https://datasheet.ciiva.com/16724/70260748-16724651.pdf?src-supplier=Allied+Electronics; ComponentLink6Description: https://datasheet.ciiva.com/16724/70260748-16724651.pdf?src-supplier=Allied+Electronics; Supplier Part Number 1: 2398488
footprint Resistor 1206
pins: 1, 2

## Resistor: 22k R
designator R?, comment 22k R 1206
Res Thick Film 1206 22K Ohm 5% 0.25W(1/4W) ±200ppm/C Pad SMD Automotive T/R; Manufacturer: Stackpole Electronics; Manufacturer Part Number: RMCF1206JT22K0; Resistance: 22kR; Power Rating: 250mW; Temperature Coefficient: 200ppm/°C; Supplier 1: Avnet; RoHS: Yes; Category: Chip SMD Resistors; Stock 1: 175000; Pricing 1: 5000=0,00700, 10000=0,00690, 20000=0,00680, 30000=0,00670, 40000=0,00660, 50000=0,00650, 500000=0,00640 (USD); Mount: Surface Mount; Case/Package: 1206; Case Code (Metric): 3216; Case Code (Imperial): 1206; Contact Plating: Tin,Matte; Size Code: 1206; Min Operating Temperature: -55°C; Max Operating Temperature: 155°C; Packaging: Tape and Reel; Tolerance: 5%; Resistor Type: Thick Film; Series: RMCF; Number of Terminations: 2; Max Power Dissipation: 250mW; Features: Automotive AEC-Q200; Construction: Rectangular; Length: 3.2mm; Width: 0.063inch; Height: 0.028inch; Depth: 1.6mm; Radiation Hardening: No; RoHS Compliant: Yes; Lead Free: Lead Free; Military Standard: Not; ComponentLink1URL: https://datasheet.ciiva.com/15216/getdatasheetpartid-369949-15216054.pdf?src-supplier=Verical; ComponentLink1Description: https://datasheet.ciiva.com/15216/getdatasheetpartid-369949-15216054.pdf?src-supplier=Verical; Supplier Part Number 1: RMCF1206JT22K0
footprint Resistor 1206
pins: 1, 2

## Resistor: 75R
designator R?, comment 75R
Res Thin Film 1206 75 Ohm 0.1% 1/4W ±25ppm/°C Molded SMD SMD Punched Carrier T/R; Manufacturer: Panasonic; Manufacturer Part Number: ERA-8AEB750V; Power Rating: 250mW; Voltage Rating: 150V; Supplier 1: Farnell; RoHS: Yes; Category: Chip SMD Resistors; Stock 1: 2826; Pricing 1: 10=0,39700, 100=0,17300, 500=0,14200, 1000=0,14100, 2500=0,13900, 5000=0,13800, 25000=0,13600, 50000=0,13500 (EUR); Mount: Surface Mount; Case/Package: 1206; Number of Pins: 2; Case Code (Metric): 3216; Case Code (Imperial): 1206; Contact Plating: Tin; Min Operating Temperature: -55°C; Max Operating Temperature: 155°C; Resistance: 75R; Tolerance: 0.1%; Package Quantity: 5000; Packaging: Tape and Reel; Resistor Type: Thin Film,Metal Film; Termination: SMD/SMT; Temperature Coefficient: 25ppm/°C; Series: ERA-8A; Resistance Tolerance: 0.1%; Number of Terminations: 2; Max Power Dissipation: 250mW; Construction: Rectangular; Features: Automotive AEC-Q200; Voltage Rating (DC): 150V; Technology: THIN FILM; Length: 3.2mm; Width: 1.6mm; Height: 0.6mm; Depth: 1.6mm; Ratings: AEC-Q200; Radiation Hardening: No; Lead Free: Lead Free; Military Standard: Not; RoHS Compliant: Yes; Reach SVHC Compliant: Yes; ComponentLink1URL: https://datasheet.ciiva.com/48529/era-eng-tds-48529837.pdf?src-supplier=Distrelec; ComponentLink1Description: https://datasheet.ciiva.com/48529/era-eng-tds-48529837.pdf?src-supplier=Distrelec; ComponentLink2URL: https://datasheet.ciiva.com/24061/aoa0000ce26-197354-24061558.pdf?src-supplier=Mouser; ComponentLink2Description: https://datasheet.ciiva.com/24061/aoa0000ce26-197354-24061558.pdf?src-supplier=Mouser; ComponentLink3URL: https://datasheet.ciiva.com/9187/aoa0000ce26-9187734.pdf?src-supplier=Avnet; ComponentLink3Description: https://datasheet.ciiva.com/9187/aoa0000ce26-9187734.pdf?src-supplier=Avnet; Supplier Part Number 1: 1841731
footprint Resistor 1206
pins: 1, 2